# Altium footprint library H1102NLT.PcbLib: 1 footprints
Each footprint in its own frame and in the unit in brackets; x right, y up, seen from the top. Pads: shape width x height; smd on the part's side, far side on the other; paste and mask are expansions set on the pad; w line width, h text height; cw(c..) or ccw(c..) is an arc to the next point about the centre after c.
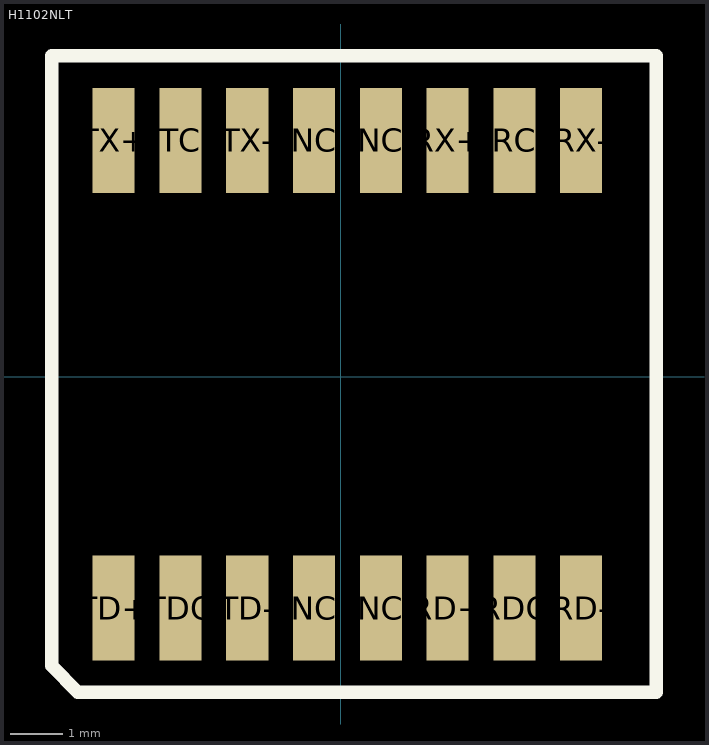
[diagram p0: the footprint, top view; thin cyan lines are the x and y axes]

## H1102NLT [mm]
pads (16):
  rect 0.8x2 smd: NC(-0.51,-4.4) NC(-0.51,4.49) NC(0.76,-4.4) NC(0.76,4.49) RC(3.3,4.49) RD+(2.03,-4.4) RD-(4.57,-4.4) RDC(3.3,-4.4) RX+(2.03,4.49) RX-(4.57,4.49) TC(-3.05,4.49) TD+(-4.32,-4.4) TD-(-1.78,-4.4) TDC(-3.05,-4.4) TX+(-4.32,4.49) TX-(-1.78,4.49)
Top Overlay:
  lines w0.254: -5.5,-5.5 -5.5,6.1 6,6.1 6,-6 -5,-6 -5.5,-5.5